# Altium schematic symbol library 1N5363.SchLib: 1 symbol
Pins are listed as number, name and electrical type; pins without a type are passive.

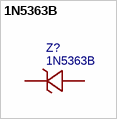
[diagram p0: symbol 1N5363B]

## 1N5363B
designator Z?
30V稳压管; Manufacturer: SUNMATE(森美特); Contributor: lcsc; Supplier: LCSC; Supplier Part: C5308037; Manufacturer Part: 1N5363B; spicePre: U; spiceSymbolName: 1N5363B
pins: 1 C, 2 A